# EAGLE library part ADC_LT2201 (library akita)
Linear Technology ADC 16bit 20Msps
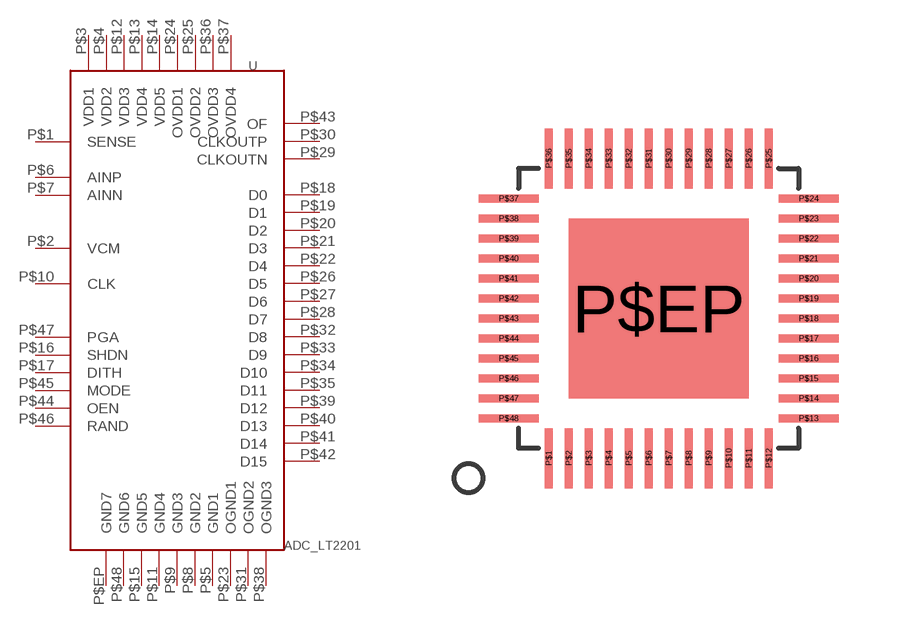
[diagram p142: symbol with the pads of QFN48_7X7MM; footprint QFN48_7X7MM]

Designator prefix U

## ADC_LT2201  [QFN48_7X7MM]
P$1  SENSE
P$2  VCM
P$3  VDD1
P$4  VDD2
P$5  GND1
P$6  AINP
P$7  AINN
P$8  GND2
P$9  GND3
P$10  CLK
P$11  GND4
P$12  VDD3
P$13  VDD4
P$14  VDD5
P$15  GND5
P$16  SHDN
P$17  DITH
P$18  D0
P$19  D1
P$20  D2
P$21  D3
P$22  D4
P$23  OGND1
P$24  OVDD1
P$25  OVDD2
P$26  D5
P$27  D6
P$28  D7
P$29  CLKOUTN
P$30  CLKOUTP
P$31  OGND2
P$32  D8
P$33  D9
P$34  D10
P$35  D11
P$36  OVDD3
P$37  OVDD4
P$38  OGND3
P$39  D12
P$40  D13
P$41  D14
P$42  D15
P$43  OF
P$44  OEN
P$45  MODE
P$46  RAND
P$47  PGA
P$48  GND6
P$EP  GND7

## Footprint QFN48_7X7MM (pad centres in mm)
smd 0.2 x 1.5: P$1 -2.75,-3.75; P$2 -2.25,-3.75; P$3 -1.75,-3.75; P$4 -1.25,-3.75; P$5 -0.75,-3.75; P$6 -0.25,-3.75; P$7 0.25,-3.75; P$8 0.75,-3.75; P$9 1.25,-3.75; P$10 1.75,-3.75; P$11 2.25,-3.75; P$12 2.75,-3.75; P$25 2.75,3.75; P$26 2.25,3.75; P$27 1.75,3.75; P$28 1.25,3.75; P$29 0.75,3.75; P$30 0.25,3.75; P$31 -0.25,3.75; P$32 -0.75,3.75; P$33 -1.25,3.75; P$34 -1.75,3.75; P$35 -2.25,3.75; P$36 -2.75,3.75
smd 1.5 x 0.2: P$13 3.75,-2.75; P$14 3.75,-2.25; P$15 3.75,-1.75; P$16 3.75,-1.25; P$17 3.75,-0.75; P$18 3.75,-0.25; P$19 3.75,0.25; P$20 3.75,0.75; P$21 3.75,1.25; P$22 3.75,1.75; P$23 3.75,2.25; P$24 3.75,2.75; P$37 -3.75,2.75; P$38 -3.75,2.25; P$39 -3.75,1.75; P$40 -3.75,1.25; P$41 -3.75,0.75; P$42 -3.75,0.25; P$43 -3.75,-0.25; P$44 -3.75,-0.75; P$45 -3.75,-1.25; P$46 -3.75,-1.75; P$47 -3.75,-2.25; P$48 -3.75,-2.75
smd 4.5 x 4.5: P$EP 0,0